# EAGLE library part 749196520 (library Traficon)
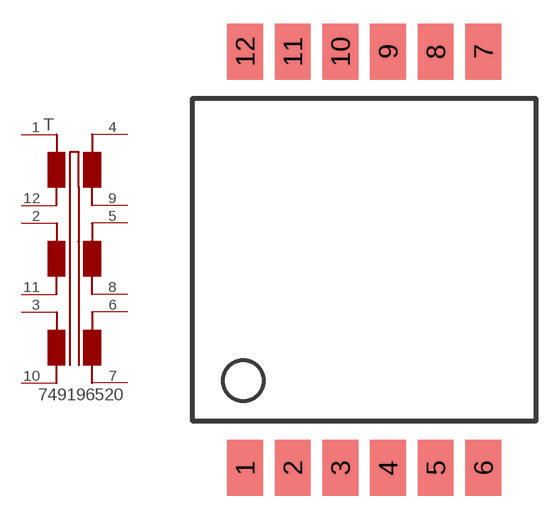
[diagram p258: symbol with the pads of 749196520; footprint 749196520]

Designator prefix T

## 749196520  [749196520]
1  101  pas
2  102  pas
3  103  pas
4  104  pas
5  105  pas
6  106  pas
7  107  pas
8  108  pas
9  109  pas
10  110  pas
11  111  pas
12  112  pas

## Footprint 749196520 (pad centres in mm)
CT: Made package wider on 26/08/10.
smd 2.25 x 3.5: 1 -7.5,-13.1; 2 -4.5,-13.1; 3 -1.5,-13.1; 4 1.5,-13.1; 5 4.5,-13.1; 6 7.5,-13.1; 7 7.5,13.1; 8 4.5,13.1; 9 1.5,13.1; 10 -1.5,13.1; 11 -4.5,13.1; 12 -7.5,13.1